# Altium schematic symbol library Local_Parts.SchLib: 2 symbols
Pins are listed as number, name and electrical type; pins without a type are passive.

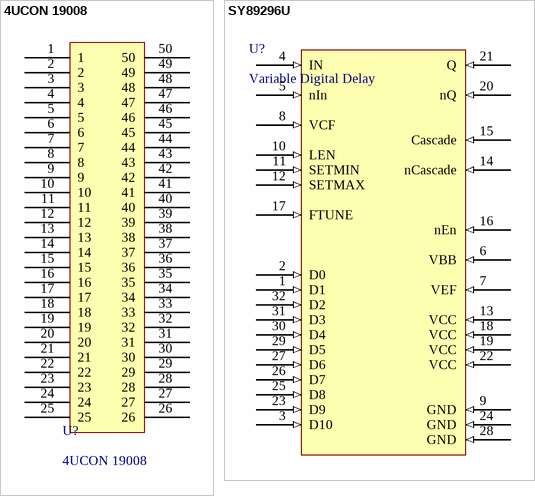
[diagram p0: symbols 4UCON 19008 to SY89296U]

## 4UCON 19008
designator U?
footprint 4UCON_19008
pins: 1, 2, 3, 4, 5, 6, 7, 8, 9, 10, 11, 12, 13, 14, 15, 16, 17, 18, 19, 20, 21, 22, 23, 24, 25, 26, 27, 28, 29, 30, 31, 32, 33, 34, 35, 36, 37, 38, 39, 40, 41, 42, 43, 44, 45, 46, 47, 48, 49, 50

## SY89296U
designator U?, comment Variable Digital Delay
footprint CQFP80P1115X1115X120-32N (CQFP, 32-Leads, Body 11.15x11.15mm, Pitch 0.80mm, IPC Medium Density)
pins: 1 D1 (in), 2 D0 (in), 3 D10 (in), 4 IN (in), 5 nIn (in), 6 VBB (in), 7 VEF (in), 8 VCF (in), 9 GND (in), 10 LEN (in), 11 SETMIN (in), 12 SETMAX (in), 13 VCC (in), 14 nCascade (in), 15 Cascade (in), 16 nEn (in), 17 FTUNE (in), 18 VCC (in), 19 VCC (in), 20 nQ (in), 21 Q (in), 22 VCC (in), 23 D9 (in), 24 GND (in), 25 D8 (in), 26 D7 (in), 27 D6 (in), 28 GND (in), 29 D5 (in), 30 D4 (in), 31 D3 (in), 32 D2 (in)